# Altium footprint library Cap0805.PcbLib: 1 footprints
Each footprint in its own frame and in the unit in brackets; x right, y up, seen from the top. Pads: shape width x height; smd on the part's side, far side on the other; paste and mask are expansions set on the pad; w line width, h text height; cw(c..) or ccw(c..) is an arc to the next point about the centre after c.
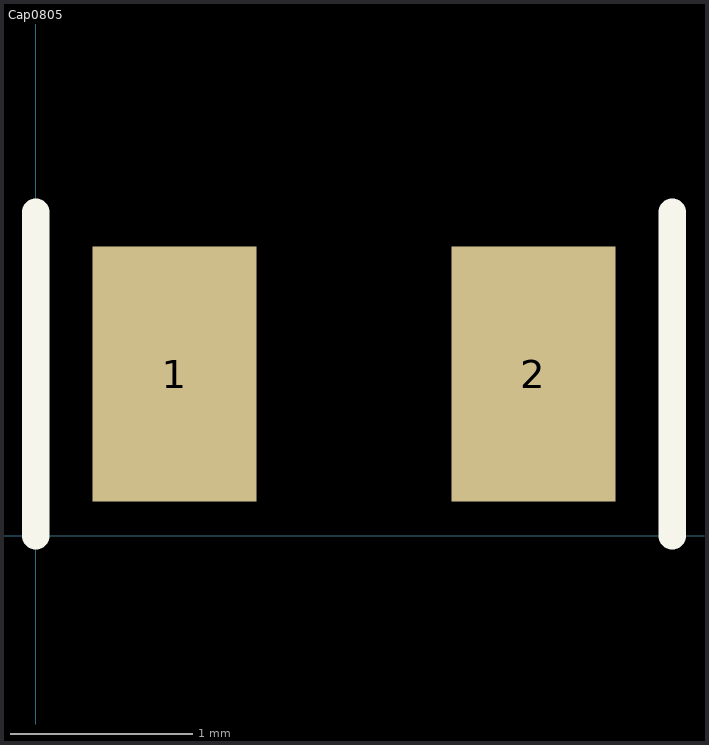
[diagram p0: the footprint, top view; thin cyan lines are the x and y axes]

## Cap0805 [mm]
pads (2):
  rect 0.9x1.4 smd: 1(0.762,0.889) 2(2.73,0.889)
Top Overlay:
  lines w0.15: 0,0 0,1.778 ; 3.492,0 3.492,1.778
3D body "Ceramic_Capacitor_0805_h32mil.step": height 0.81, standoff 0.01, extent 0.74,0.264 2.74,1.514